# Altium schematic symbol library SCH - POWER - LINEAR VREG - DIODES INC AP2210-FIXED.SchLib: 1 symbol
Pins are listed as number, name and electrical type; pins without a type are passive.

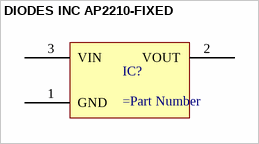
[diagram p0: symbol DIODES INC AP2210-FIXED]

## DIODES INC AP2210-FIXED
designator IC?
pins: 1 GND, 2 VOUT, 3 VIN